# Altium schematic symbol library Schlib1.SchLib: 8 symbols
Pins are listed as number, name and electrical type; pins without a type are passive.

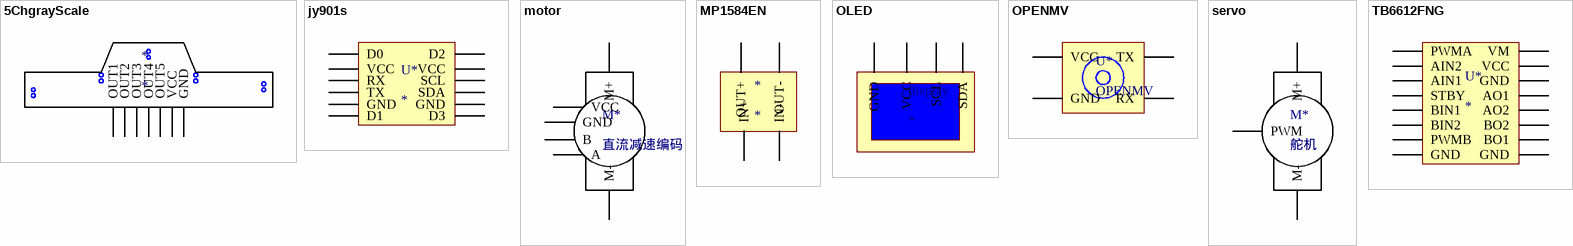
[diagram p0: symbols 5ChgrayScale to TB6612FNG]

## 5ChgrayScale
designator *
pins: 0 OUT1 (power), 1 OUT2 (power), 2 OUT3 (power), 3 OUT4 (power), 4 OUT5 (power), 5 VCC (power), 6 GND (power)

## jy901s
designator U*
pins: 0 D0 (power), 1 VCC (power), 2 RX (power), 3 TX (power), 4 GND (power), 5 D1 (power), 6 D3 (power), 7 GND (power), 8 SDA (power), 9 SCL (power), 10 VCC (power), 11 D2 (power)

## motor
designator M*, comment 直流减速编码电机
pins: 1 M+ (power), 2 M- (power), 3 VCC (power), 4 GND (power), 5 B (power), 6 A (power)

## MP1584EN
designator *
pins: 0 IN+ (power), 1 IN- (power), 2 OUT+ (power), 3 OUT- (power)

## OLED
designator display
pins: 0 GND (power), 1 VCC (power), 2 SCL (power), 3 SDA (power)

## OPENMV
designator U*
pins: 0 VCC (power), 1 GND (power), 2 TX (power), 3 RX (power)

## servo
designator M*, comment 舵机
pins: 0 M+ (power), 1 M- (power), 2 PWM (power)

## TB6612FNG
designator U*
pins: 0 PWMA (power), 1 AIN2 (power), 2 AIN1 (power), 3 STBY (power), 4 BIN1 (power), 5 BIN2 (power), 6 PWMB (power), 7 GND (power), 8 GND (power), 9 BO1 (power), 10 BO2 (power), 11 AO2 (power), 12 AO1 (power), 13 GND (power), 14 VCC (power), 15 VM (power)